# Altium footprint library push_button.PcbLib: 1 footprints
Each footprint in its own frame and in the unit in brackets; x right, y up, seen from the top. Pads: shape width x height; smd on the part's side, far side on the other; paste and mask are expansions set on the pad; w line width, h text height; cw(c..) or ccw(c..) is an arc to the next point about the centre after c.
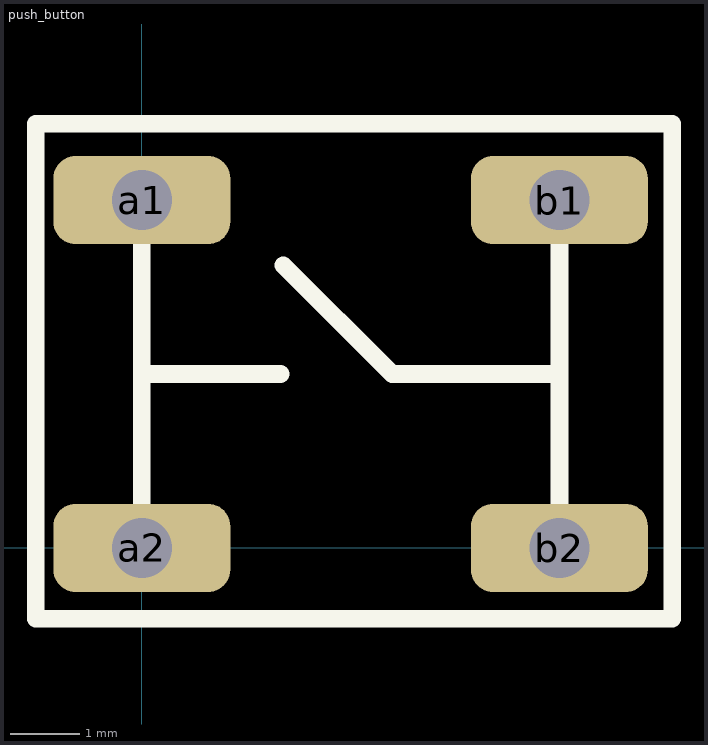
[diagram p0: the footprint, top view; thin cyan lines are the x and y axes]

## push_button [mm]
pads (4):
  rrect50% 2.54x1.27 hole 0.86: a1(0,5) a2(0,0) b1(6,5) b2(6,0)
Top Overlay:
  lines w0.254: 0,0 0,5 ; 0,2.5 1.992,2.5 ; 2.032,4.064 3.596,2.5 6,2.5 ; 6,0 6,5 ; -1.524,-1.016 -1.524,6.096 7.62,6.096 7.62,-1.016 -1.524,-1.016
3D body "tactileswitch-short.STEP": height 5, standoff -3.33, extent -0.845,-0.463 6.846,5.544